# EAGLE library part CC1120 (library ti_rf)
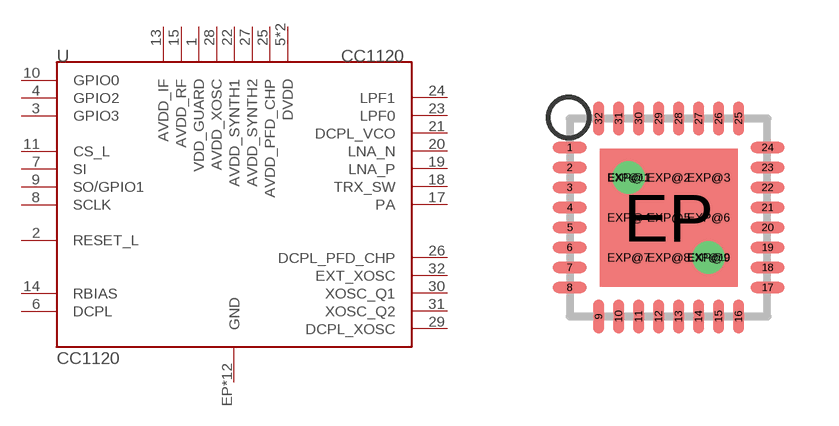
[diagram p2: symbol with the pads of RHB_S-PVQFN-N32; footprint RHB_S-PVQFN-N32]

Designator prefix U

## CC1120  [RHB_S-PVQFN-N32]
1  VDD_GUARD
2  RESET_L
3  GPIO3
4  GPIO2
5  DVDD
6  DCPL
7  SI
8  SCLK
9  SO/GPIO1
10  GPIO0
11  CS_L
12  DVDD
13  AVDD_IF
14  RBIAS
15  AVDD_RF
17  PA
18  TRX_SW
19  LNA_P
20  LNA_N
21  DCPL_VCO
22  AVDD_SYNTH1
23  LPF0
24  LPF1
25  AVDD_PFD_CHP
26  DCPL_PFD_CHP
27  AVDD_SYNTH2
28  AVDD_XOSC
29  DCPL_XOSC
30  XOSC_Q1
31  XOSC_Q2
32  EXT_XOSC
EP  GND
EXP@1  GND
EXP@2  GND
EXP@3  GND
EXP@4  GND
EXP@5  GND
EXP@6  GND
EXP@7  GND
EXP@8  GND
EXP@9  GND
EXP@10  GND
EXP@11  GND

## Footprint RHB_S-PVQFN-N32 (pad centres in mm)
smd 0.85 x 0.28: 1 -2.475,1.75; 2 -2.475,1.25; 3 -2.475,0.75; 4 -2.475,0.25; 5 -2.475,-0.25; 6 -2.475,-0.75; 7 -2.475,-1.25; 8 -2.475,-1.75; 17 2.475,-1.75; 18 2.475,-1.25; 19 2.475,-0.75; 20 2.475,-0.25; 21 2.475,0.25; 22 2.475,0.75; 23 2.475,1.25; 24 2.475,1.75
smd 0.28 x 0.85: 9 -1.75,-2.475; 10 -1.25,-2.475; 11 -0.75,-2.475; 12 -0.25,-2.475; 13 0.25,-2.475; 14 0.75,-2.475; 15 1.25,-2.475; 16 1.75,-2.475; 25 1.75,2.475; 26 1.25,2.475; 27 0.75,2.475; 28 0.25,2.475; 29 -0.25,2.475; 30 -0.75,2.475; 31 -1.25,2.475; 32 -1.75,2.475
smd 3.45 x 3.45: EP 0,0
drill 0.3 pad 0.6: EXP@1 -1,1; EXP@2 0,1; EXP@3 1,1; EXP@4 -1,0; EXP@5 0,0; EXP@6 1,0; EXP@7 -1,-1; EXP@8 0,-1; EXP@9 1,-1; EXP@10 1,-1; EXP@11 -1,1